# Altium footprint library EISI.PcbLib: 695 footprints (part 11 of 44)
Each footprint in its own frame and in the unit in brackets; x right, y up, seen from the top. Pads: shape width x height; smd on the part's side, far side on the other; paste and mask are expansions set on the pad; w line width, h text height; cw(c..) or ccw(c..) is an arc to the next point about the centre after c.
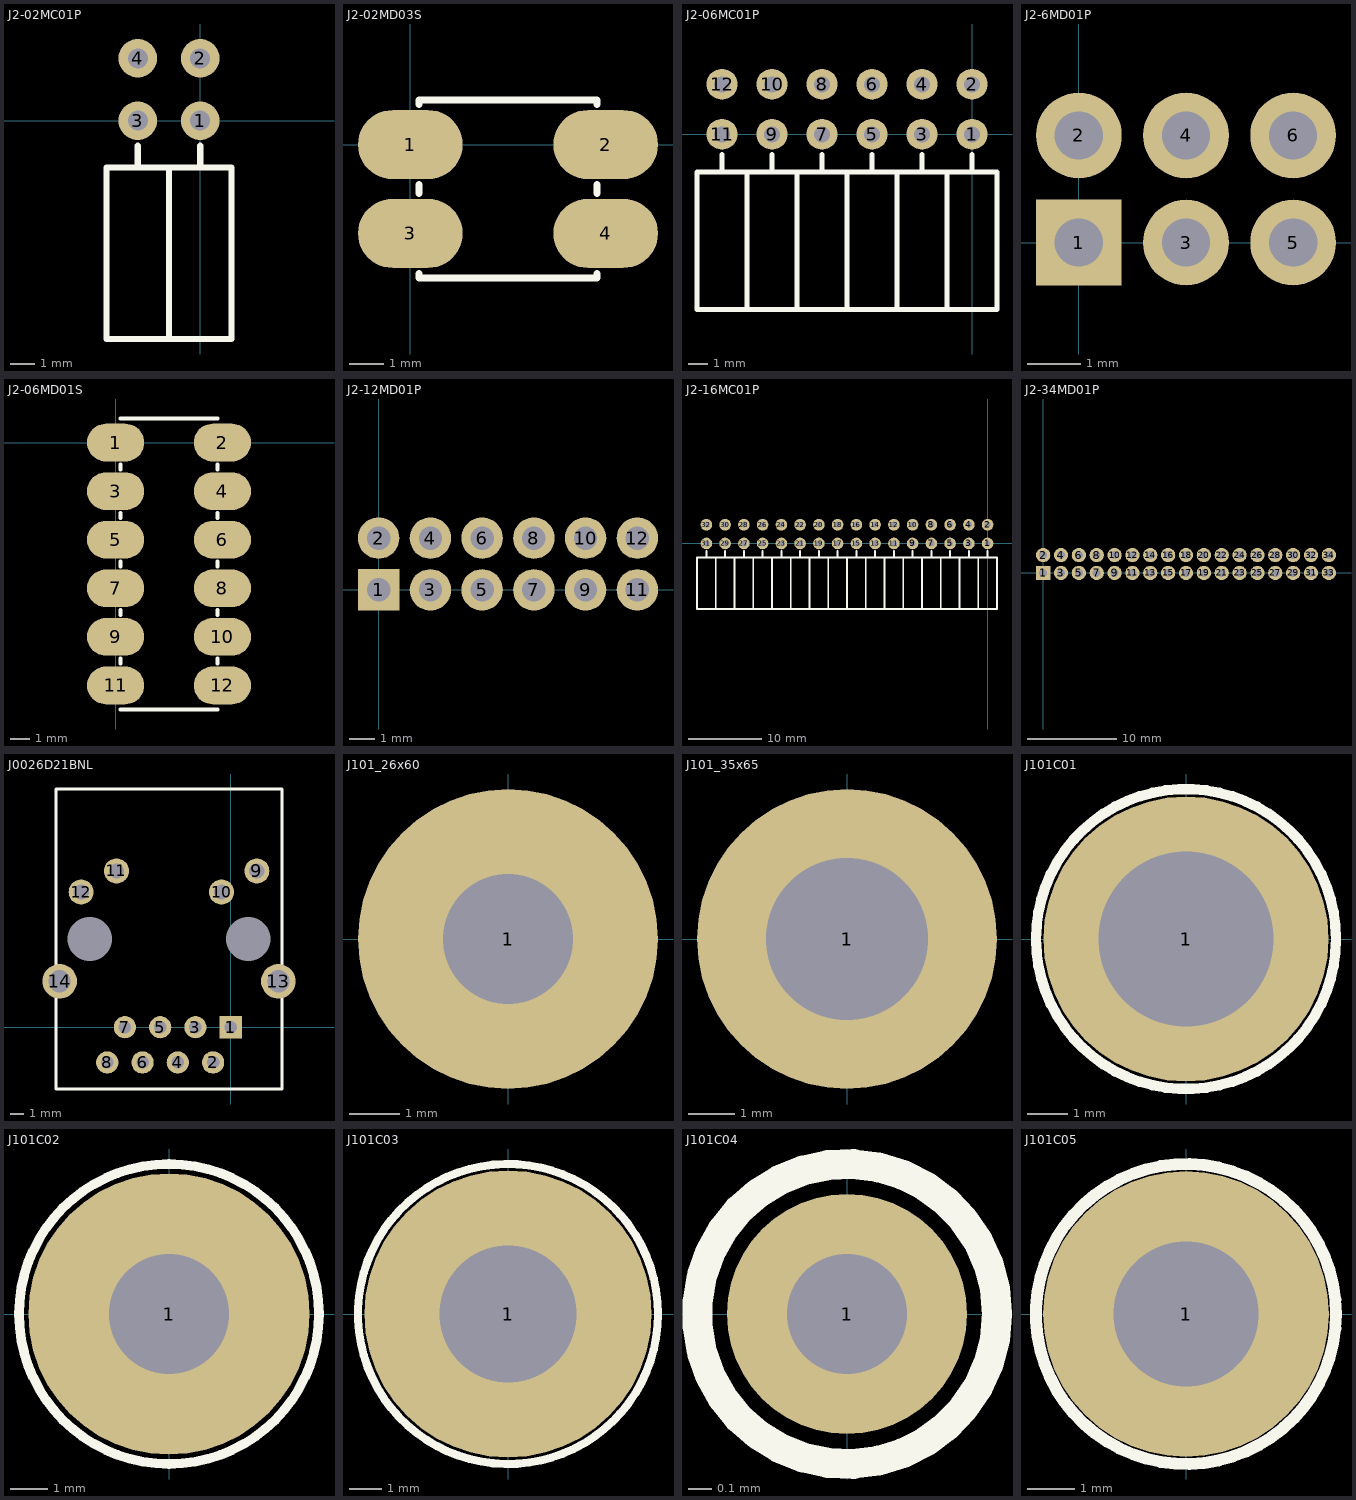
[diagram p10: the footprints below, top view; thin cyan lines are the x and y axes]

## J2-02MC01P [mil]
pads (4):
  round 62 hole 32: 1(0,0) 2(0,100) 3(-100,0) 4(-100,100)
TopOverlay:
  lines w10: -100,-75 -100,-40 ; -50,-350 -50,-75 ; 0,-75 0,-40 ; -150,-350 50,-350 50,-75 -150,-75 -150,-350

## J2-02MD03S [mil]
pads (8):
  oval 118x78 smd: 1(0,0) 2(220,0) 3(0,-100) 4(220,-100)
  oval 85x47 on Top Solder: ""(0,-100) ""(220,-100) ""(220,0)
  rect 85x47 on Top Solder: ""(0,0)
TopOverlay:
  lines w7.87: 10,-145 10,-150 210,-150 210,-145 ; 10,-55 10,-45 ; 10,45 10,50 210,50 210,45 ; 210,-55 210,-45

## J2-06MC01P [mil]
pads (12):
  round 62 hole 32: 1(0,0) 2(0,100) 3(-100,0) 4(-100,100) 5(-200,0) 6(-200,100) 7(-300,0) 8(-300,100) 9(-400,0) 10(-400,100) 11(-500,0) 12(-500,100)
TopOverlay:
  lines w10: -500,-75 -500,-40 ; -400,-75 -400,-40 ; -350,-350 -350,-75 ; -300,-75 -300,-40 ; -200,-75 -200,-40 ; -150,-350 -150,-75 ; -100,-75 -100,-40 ; -50,-350 -50,-75 ; 0,-75 0,-40 ; -250,-350 -550,-350 -550,-75 -250,-75 ; -250,-350 -250,-75 ; -250,-350 -250,-75 ; -250,-350 50,-350 50,-75 -250,-75 ; -450,-350 -450,-75 -450,-350

## J2-6MD01P [mm]
pads (6):
  rect 1.6x1.6 hole 0.9: 1(0,0)
  round 1.6 hole 0.9: 2(0,2) 3(2,0) 4(2,2) 5(4,0) 6(4,2)

## J2-06MD01S [mil]
pads (24):
  oval 118x78 smd: 1(0,0) 2(220,0) 3(0,-100) 4(220,-100) 5(0,-200) 6(220,-200) 7(0,-300) 8(220,-300) 9(0,-400) 10(220,-400) 11(0,-500) 12(220,-500)
  oval 85x47 on Top Solder: ""(0,-500) ""(0,-400) ""(0,-300) ""(0,-200) ""(0,-100) ""(220,-500) ""(220,-400) ""(220,-300) ""(220,-200) ""(220,-100) ""(220,0)
  rect 85x47 on Top Solder: ""(0,0)
TopOverlay:
  lines w7.87: 10,-550 210,-550 ; 10,-455 10,-445 ; 10,-355 10,-345 ; 10,-255 10,-245 ; 10,-155 10,-145 ; 10,-55 10,-45 ; 10,50 210,50 ; 210,-455 210,-445 ; 210,-355 210,-345 ; 210,-255 210,-245 ; 210,-155 210,-145 ; 210,-55 210,-45

## J2-12MD01P [mm]
pads (12):
  rect 1.6x1.6 hole 0.9: 1(0,0)
  round 1.6 hole 0.9: 2(0,2) 3(2,0) 4(2,2) 5(4,0) 6(4,2) 7(6,0) 8(6,2) 9(8,0) 10(8,2) 11(10,0) 12(10,2)

## J2-16MC01P [mil]
pads (32):
  round 62 hole 32: 1(0,0) 2(0,100) 3(-100,0) 4(-100,100) 5(-200,0) 6(-200,100) 7(-300,0) 8(-300,100) 9(-400,0) 10(-400,100) 11(-500,0) 12(-500,100) 13(-600,0) 14(-600,100) 15(-700,0) 16(-700,100) 17(-800,0) 18(-800,100) 19(-900,0) 20(-900,100) 21(-1000,0) 22(-1000,100) 23(-1100,0) 24(-1100,100) 25(-1200,0) 26(-1200,100) 27(-1300,0) 28(-1300,100) 29(-1400,0) 30(-1400,100) 31(-1500,0) 32(-1500,100)
TopOverlay:
  lines w10: -1500,-75 -1500,-40 ; -1400,-75 -1400,-40 ; -1350,-350 -1350,-75 ; -1300,-75 -1300,-40 ; -1200,-75 -1200,-40 ; -1150,-350 -1150,-75 ; -1100,-75 -1100,-40 ; -1000,-75 -1000,-40 ; -950,-350 -950,-75 ; -900,-75 -900,-40 ; -800,-75 -800,-40 ; -750,-350 -750,-75 ; -700,-75 -700,-40 ; -600,-75 -600,-40 ; -550,-350 -550,-75 ; -500,-75 -500,-40 ; -400,-75 -400,-40 ; -350,-350 -350,-75 ; -300,-75 -300,-40 ; -200,-75 -200,-40 ; -150,-350 -150,-75 ; -100,-75 -100,-40 ; -50,-350 -50,-75 ; 0,-75 0,-40 ; -250,-350 -1550,-350 -1550,-75 -250,-75 ; -250,-350 50,-350 50,-75 -250,-75 ; -250,-350 -250,-75 ; -250,-350 -250,-75 ; -1450,-350 -1450,-75 -1450,-350 ; -1250,-350 -1250,-75 -1250,-350 ; -1050,-350 -1050,-75 -1050,-350 ; -850,-350 -850,-75 -850,-350 ; -650,-350 -650,-75 -650,-350 ; -450,-350 -450,-75 -450,-350

## J2-34MD01P [mm]
pads (34):
  rect 1.6x1.6 hole 0.9: 1(0,0)
  round 1.6 hole 0.9: 2(0,2) 3(2,0) 4(2,2) 5(4,0) 6(4,2) 7(6,0) 8(6,2) 9(8,0) 10(8,2) 11(10,0) 12(10,2) 13(12,0) 14(12,2) 15(14,0) 16(14,2) 17(16,0) 18(16,2) 19(18,0) 20(18,2) 21(20,0) 22(20,2) 23(22,0) 24(22,2) 25(24,0) 26(24,2) 27(26,0) 28(26,2) 29(28,0) 30(28,2) 31(30,0) 32(30,2) 33(32,0) 34(32,2)

## J0026D21BNL [mm] "RJ45 Pulse"
height 13.84
pads (16):
  rect 1.6x1.6 hole 0.9: 1(0,0)
  round 1.6 hole 0.9: 2(-1.27,-2.54) 3(-2.54,0) 4(-3.81,-2.54) 5(-5.08,0) 6(-6.35,-2.54) 7(-7.62,0) 8(-8.89,-2.54)
  round 1.8 hole 1.1: 9(1.88,11.25) 10(-0.66,9.73) 11(-8.23,11.25) 12(-10.77,9.73)
  round 2.5 hole 1.6: 13(3.43,3.3) 14(-12.32,3.3)
  rect 1.6x1.6 hole 3.2 unplated: ""(-10.16,6.35) ""(1.27,6.35)
TopOverlay:
  lines w0.2: -12.575,-4.45 -12.575,17.15 3.685,17.15 3.685,-4.45 -12.575,-4.45

## J101_26x60 [mm] "Trou fixation 2.6mm x 6mm"
pads (1):
  round 6 hole 2.6 paste-0.05: 1(0,0)

## J101_35x65 [mm] "Trou fixation 3.5 x 6.5mm"
pads (1):
  round 6.5 hole 3.5 paste-0.05: 1(0,0)

## J101C01 [mm]
pads (1):
  round 7 hole 4.3: 1(0,0)
TopOverlay:
  circle w0.254: c0,0 r3.683

## J101C02 [mm]
pads (1):
  round 7.5 hole 3.2: 1(0,0)
TopOverlay:
  circle w0.254: c0,0 r4

## J101C03 [mm]
pads (1):
  round 9 hole 4.3: 1(0,0)
TopOverlay:
  circle w0.254: c0,0 r4.7

## J101C04 [mil]
pads (1):
  round 40 hole 20: 1(0,0)
TopOverlay:
  circle w5: c0,0 r25

## J101C05 [mm] "Trou 3.1mm pastille 6.1mm"
pads (1):
  round 6.1 hole 3.1: 1(0,0)
TopOverlay:
  circle w0.254: c0,0 r3.2